# Altium integrated library DPS368XTSA1.IntLib: 1 symbol
Pins are listed as number, name and electrical type; pins without a type are passive.

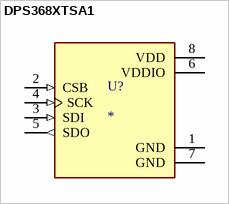
[diagram p0: symbol DPS368XTSA1]

## DPS368XTSA1
designator U?
Package dimensions: 8-pin LGA, 2.0 x 2.5 x 1.1 mm3 | Operation range: Pressure: 3001200 hPa Temperature: -4085C | Precision: 0.002 hPa (or 0.02 m; MF: Infineon Technologies; MP: DPS368XTSA1; SnapEDA_Link: https://www.snapeda.com/parts/DPS368XTSA1/Infineon/view-part/?ref=snap; Package: VFLGA-8 Infineon Technologies; Value: *; Check_prices: https://www.snapeda.com/parts/DPS368XTSA1/Infineon/view-part/?ref=eda
footprint XDCR_DPS368XTSA1
pins: 1 GND (power), 2 CSB (in), 3 SDI (in), 4 SCK (in), 5 SDO (out), 6 VDDIO (power), 7 GND (power), 8 VDD (power)